# Altium footprint library 1210RC.PcbLib: 1 footprints
Each footprint in its own frame and in the unit in brackets; x right, y up, seen from the top. Pads: shape width x height; smd on the part's side, far side on the other; paste and mask are expansions set on the pad; w line width, h text height; cw(c..) or ccw(c..) is an arc to the next point about the centre after c.
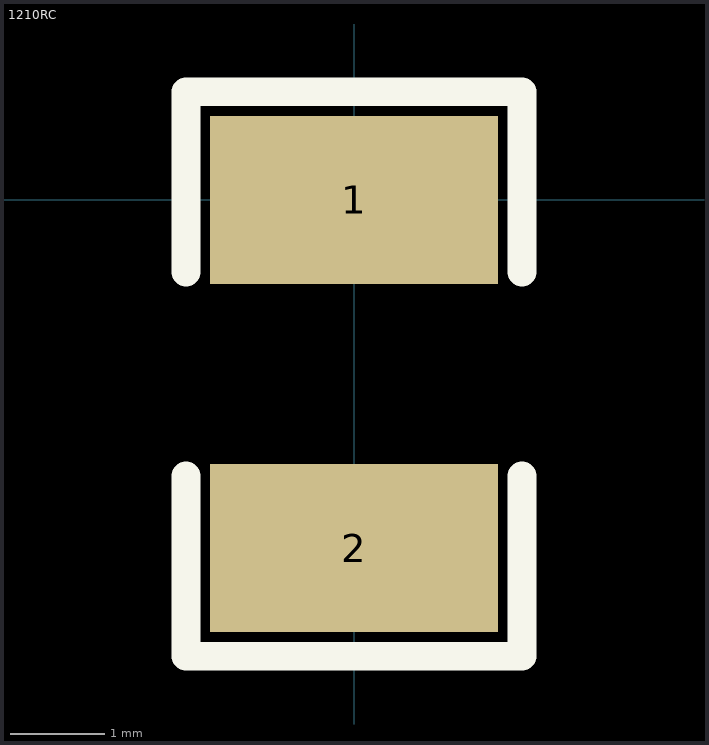
[diagram p0: the footprint, top view; thin cyan lines are the x and y axes]

## 1210RC [mil]
pads (2):
  rect 120x70 smd: 1(0,0) 2(0,-145)
Top Overlay:
  lines w12: -70,-115 -70,-190 70,-190 70,-115 ; -70,-30 -70,45 70,45 70,-30